# Altium schematic symbol library dungvh03-CERN_Logic.SchLib: 486 symbols (part 22 of 54)
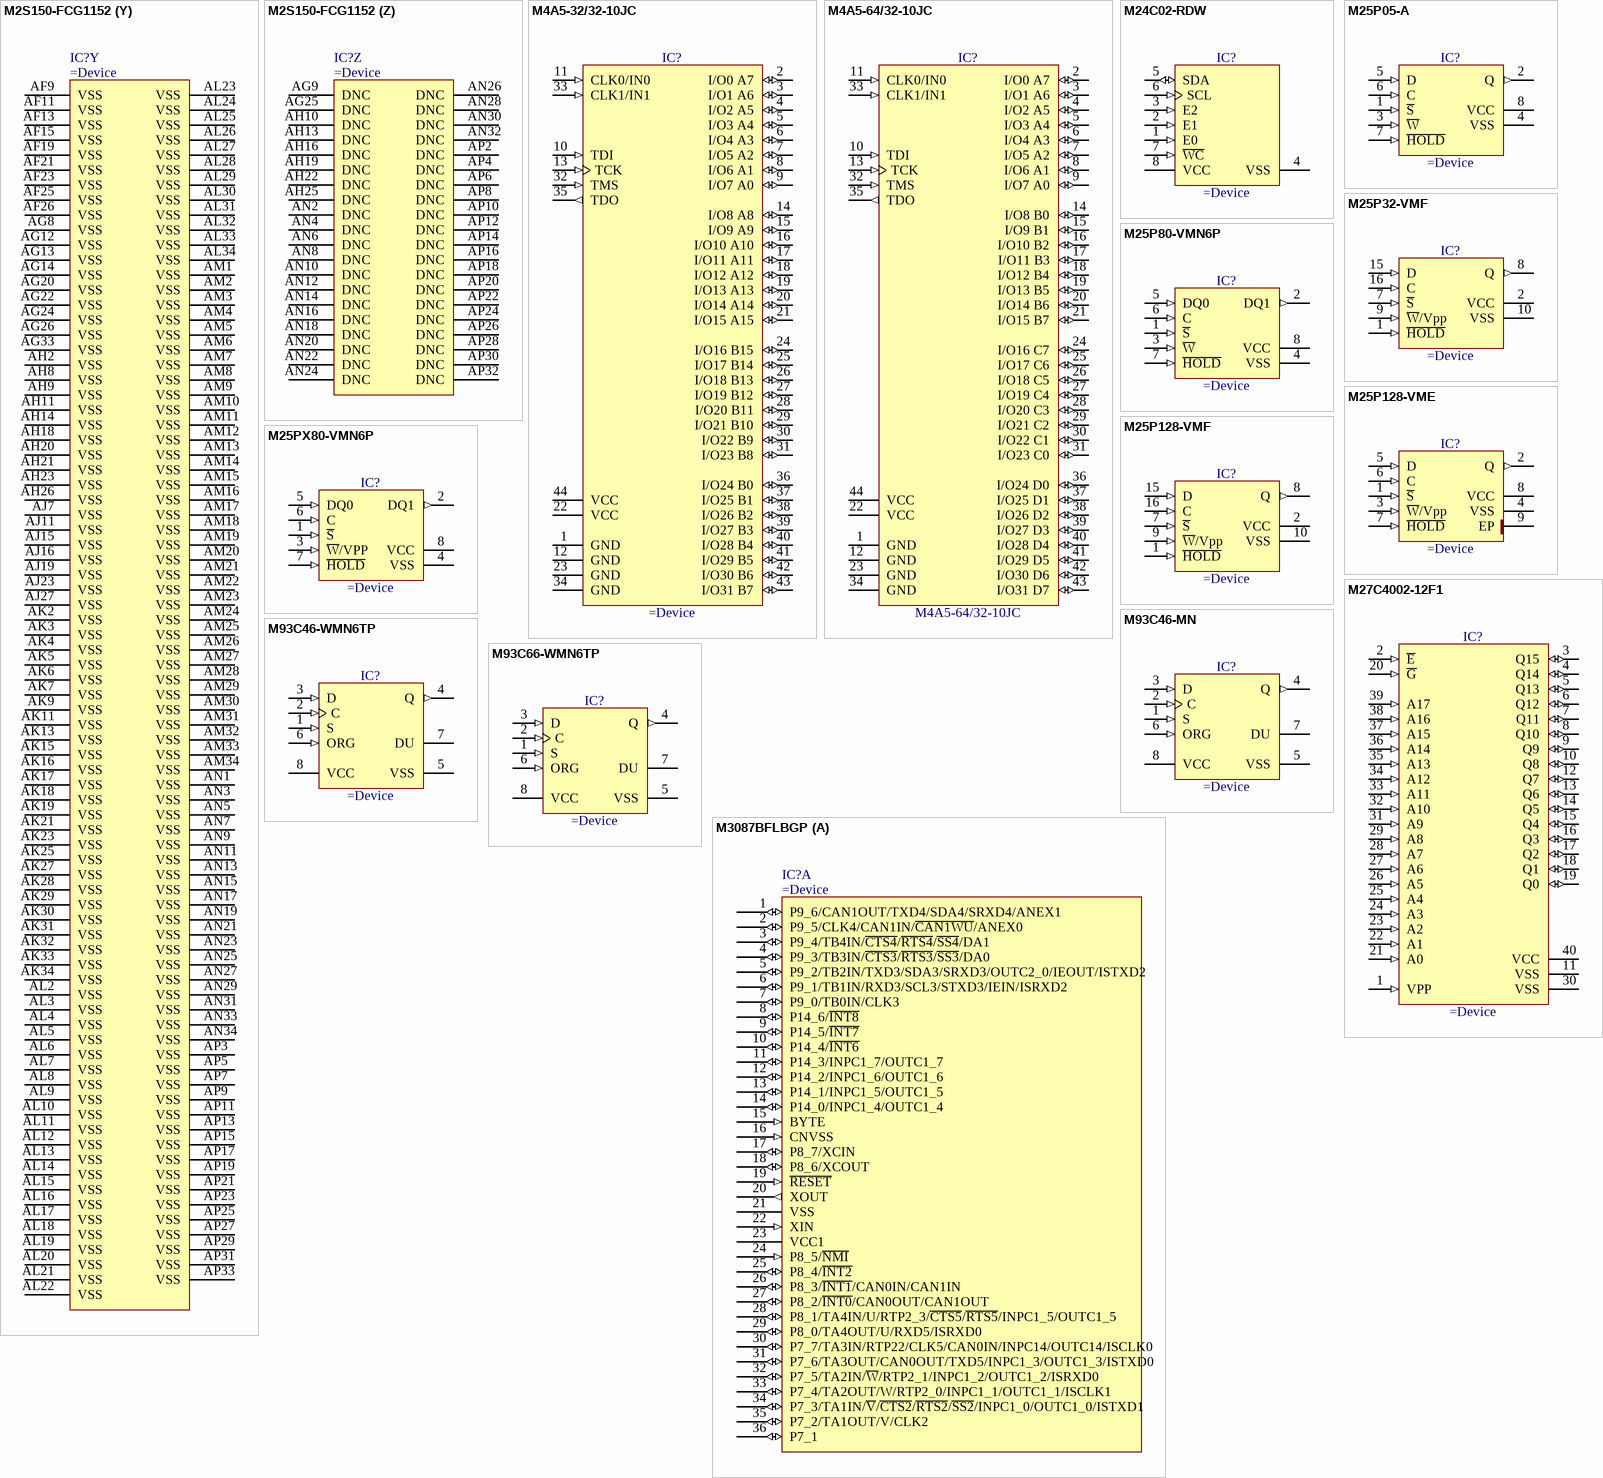
[diagram p282: symbols M2S150-FCG1152 to M3087BFLBGP]

## M2S150-FCG1152 (continued)
part V pins: AA15 VPP (power) "Power supply for charge pumps (for normal operation and programming). Must always power this pin.", AA17 VPP (power) "Power supply for charge pumps (for normal operation and programming). Must always power this pin.", AA19 VPP (power) "Power supply for charge pumps (for normal operation and programming). Must always power this pin.", AB14 VDD (power) "DC core supply voltage. Must always power this pin.", AB16 VDD (power) "DC core supply voltage. Must always power this pin.", AB18 VDD (power) "DC core supply voltage. Must always power this pin.", AB20 VDD (power) "DC core supply voltage. Must always power this pin.", AC13 VDD (power) "DC core supply voltage. Must always power this pin.", AC15 VDD (power) "DC core supply voltage. Must always power this pin.", AC17 VDD (power) "DC core supply voltage. Must always power this pin.", AC19 VDD (power) "DC core supply voltage. Must always power this pin.", AC21 VDD (power) "DC core supply voltage. Must always power this pin.", AD12 VDD (power) "DC core supply voltage. Must always power this pin.", AD14 VDD (power) "DC core supply voltage. Must always power this pin.", AD16 VDD (power) "DC core supply voltage. Must always power this pin.", AD18 VDD (power) "DC core supply voltage. Must always power this pin.", AD20 VDD (power) "DC core supply voltage. Must always power this pin.", AD22 VDD (power) "DC core supply voltage. Must always power this pin.", AE11 VDD (power) "DC core supply voltage. Must always power this pin.", AE13 VDD (power) "DC core supply voltage. Must always power this pin.", AE15 VDD (power) "DC core supply voltage. Must always power this pin.", AE19 VDD (power) "DC core supply voltage. Must always power this pin.", AE21 VDD (power) "DC core supply voltage. Must always power this pin.", AE23 VDD (power) "DC core supply voltage. Must always power this pin.", AF10 VPP (power) "Power supply for charge pumps (for normal operation and programming). Must always power this pin.", AF12 VDD (power) "DC core supply voltage. Must always power this pin.", AF14 VDD (power) "DC core supply voltage. Must always power this pin.", AF20 VDD (power) "DC core supply voltage. Must always power this pin.", AF22 VDD (power) "DC core supply voltage. Must always power this pin.", AF24 VDD (power) "DC core supply voltage. Must always power this pin.", AG10 VDD (power) "DC core supply voltage. Must always power this pin.", AG11 VDD (power) "DC core supply voltage. Must always power this pin.", AG15 VDD (power) "DC core supply voltage. Must always power this pin.", AG19 VDD (power) "DC core supply voltage. Must always power this pin.", AG21 VDD (power) "DC core supply voltage. Must always power this pin.", AG23 VDD (power) "DC core supply voltage. Must always power this pin.", AH12 VPP (power) "Power supply for charge pumps (for normal operation and programming). Must always power this pin.", AH15 VDD (power) "DC core supply voltage. Must always power this pin.", AH24 VPP (power) "Power supply for charge pumps (for normal operation and programming). Must always power this pin.", AJ18 VPP (power) "Power supply for charge pumps (for normal operation and programming). Must always power this pin.", N14 VREF2 (power), N16 VREF2 (power), N17 VREF2 (power), N18 VREF1 (power), N20 VREF1 (power), N22 VREF1 (power), P14 VDD (power) "DC core supply voltage. Must always power this pin.", P16 VDD (power) "DC core supply voltage. Must always power this pin.", P18 VDD (power) "DC core supply voltage. Must always power this pin.", P20 VDD (power) "DC core supply voltage. Must always power this pin.", R15 VDD (power) "DC core supply voltage. Must always power this pin.", R17 VDD (power) "DC core supply voltage. Must always power this pin.", R19 VDD (power) "DC core supply voltage. Must always power this pin.", R21 VDD (power) "DC core supply voltage. Must always power this pin.", T14 VPP (power) "Power supply for charge pumps (for normal operation and programming). Must always power this pin.", T16 VDD (power) "DC core supply voltage. Must always power this pin.", T18 VDD (power) "DC core supply voltage. Must always power this pin.", T20 VDD (power) "DC core supply voltage. Must always power this pin.", U15 VDD (power) "DC core supply voltage. Must always power this pin.", U17 VDD (power) "DC core supply voltage. Must always power this pin.", U19 VDD (power) "DC core supply voltage. Must always power this pin.", U21 VDD (power) "DC core supply voltage. Must always power this pin.", V14 VPP (power) "Power supply for charge pumps (for normal operation and programming). Must always power this pin.", V16 VDD (power) "DC core supply voltage. Must always power this pin.", V18 VDD (power) "DC core supply voltage. Must always power this pin.", V20 VDD (power) "DC core supply voltage. Must always power this pin.", W15 VDD (power) "DC core supply voltage. Must always power this pin.", W17 VDD (power) "DC core supply voltage. Must always power this pin.", W19 VDD (power) "DC core supply voltage. Must always power this pin.", W21 VDD (power) "DC core supply voltage. Must always power this pin.", Y14 VDD (power) "DC core supply voltage. Must always power this pin.", Y16 VDD (power) "DC core supply voltage. Must always power this pin.", Y18 VDD (power) "DC core supply voltage. Must always power this pin.", Y20 VDD (power) "DC core supply voltage. Must always power this pin."
part W pins: AA6 VDDI6 (power) "VDDI port 6, bank 6 power", AA13 VDDI6 (power) "VDDI port 6, bank 6 power", AA26 VDDI16 (power), AB9 VDDI6 (power) "VDDI port 6, bank 6 power", AB22 VDDI15 (power), AB33 VDDI16 (power), AC2 VDDI6 (power) "VDDI port 6, bank 6 power", AC30 VDDI16 (power), AD5 VDDI6 (power) "VDDI port 6, bank 6 power", AD6 VDDI8 (power) "VDDI port 8, bank 8 power", AD27 VDDI15 (power), AE34 VDDI15 (power), AF1 VDDI7 (power) "VDDI port 7, bank 7 power", AF31 VDDI15 (power), AG17 VDDI11 (power), AH4 VDDI8 (power) "VDDI port 8, bank 8 power", AH7 VDDI8 (power) "VDDI port 8, bank 8 power", AH27 VDDI14 (power), AJ9 VDDI9 (power) "VDDI port 9, bank 9 power", AJ13 VDDI10 (power), AJ21 VDDI12 (power), AJ25 VDDI13 (power), AJ31 VDDI14 (power), B7 VDDI2 (power) "VDDI port 2, bank 2 power", B9 VDDI2 (power) "VDDI port 2, bank 2 power", B11 VDDI2 (power) "VDDI port 2, bank 2 power", B13 VDDI2 (power) "VDDI port 2, bank 2 power", B15 VDDI2 (power) "VDDI port 2, bank 2 power", B17 VDDI2 (power) "VDDI port 2, bank 2 power", B20 VDDI1 (power) "VDDI port 1, bank 1 power", B22 VDDI1 (power) "VDDI port 1, bank 1 power", B24 VDDI1 (power) "VDDI port 1, bank 1 power", B26 VDDI1 (power) "VDDI port 1, bank 1 power", B28 VDDI1 (power) "VDDI port 1, bank 1 power", B30 VDDI1 (power) "VDDI port 1, bank 1 power", B32 VDDI1 (power) "VDDI port 1, bank 1 power", C3 VDDI2 (power) "VDDI port 2, bank 2 power", C18 VDDI1 (power) "VDDI port 1, bank 1 power", E8 VDDI2 (power) "VDDI port 2, bank 2 power", E10 VDDI2 (power) "VDDI port 2, bank 2 power", E12 VDDI2 (power) "VDDI port 2, bank 2 power", E14 VDDI2 (power) "VDDI port 2, bank 2 power", E16 VDDI2 (power) "VDDI port 2, bank 2 power", E21 VDDI1 (power) "VDDI port 1, bank 1 power", E23 VDDI1 (power) "VDDI port 1, bank 1 power", E25 VDDI1 (power) "VDDI port 1, bank 1 power", E27 VDDI1 (power) "VDDI port 1, bank 1 power", E29 VDDI1 (power) "VDDI port 1, bank 1 power", E34 VDDI18 (power), F1 VDDI3 (power) "VDDI port 3, bank 3 power", G4 VDDI3 (power) "VDDI port 3, bank 3 power", G6 VDDI2 (power) "VDDI port 2, bank 2 power", G32 VDDI0 (power) "VDDI port 0, bank 0 power", H9 VDDI2 (power) "VDDI port 2, bank 2 power", H11 VDDI2 (power) "VDDI port 2, bank 2 power", H13 VDDI2 (power) "VDDI port 2, bank 2 power", H15 VDDI2 (power) "VDDI port 2, bank 2 power", H17 VDDI2 (power) "VDDI port 2, bank 2 power", H22 VDDI1 (power) "VDDI port 1, bank 1 power", H24 VDDI1 (power) "VDDI port 1, bank 1 power", H26 VDDI1 (power) "VDDI port 1, bank 1 power", H28 VDDI1 (power) "VDDI port 1, bank 1 power", J32 VDDI18 (power), K3 VDDI4 (power) "VDDI port 4, bank 4 power", K14 VDDI2 (power) "VDDI port 2, bank 2 power", K22 VDDI1 (power) "VDDI port 1, bank 1 power", K26 VDDI0 (power) "VDDI port 0, bank 0 power", K29 VDDI18 (power), L6 VDDI3 (power) "VDDI port 3, bank 3 power", L15 VDDI2 (power) "VDDI port 2, bank 2 power", L17 VDDI2 (power) "VDDI port 2, bank 2 power", L19 VDDI1 (power) "VDDI port 1, bank 1 power", L21 VDDI1 (power) "VDDI port 1, bank 1 power", M9 VDDI3 (power) "VDDI port 3, bank 3 power", M14 VDDI2 (power) "VDDI port 2, bank 2 power", M16 VDDI2 (power) "VDDI port 2, bank 2 power", M18 VDDI1 (power) "VDDI port 1, bank 1 power", M20 VDDI1 (power) "VDDI port 1, bank 1 power", M33 VDDI17 (power), N2 VDDI4 (power) "VDDI port 4, bank 4 power", N13 VDDI3 (power) "VDDI port 3, bank 3 power", N15 VDDI2 (power) "VDDI port 2, bank 2 power", N19 VDDI1 (power) "VDDI port 1, bank 1 power", N21 VDDI1 (power) "VDDI port 1, bank 1 power", N30 VDDI18 (power), P5 VDDI4 (power) "VDDI port 4, bank 4 power", P22 VDDI18 (power), P27 VDDI18 (power), R8 VDDI4 (power) "VDDI port 4, bank 4 power", R13 VDDI4 (power) "VDDI port 4, bank 4 power", R34 VDDI17 (power), T1 VDDI5 (power) "VDDI port 5, bank 5 power", T22 VDDI17 (power), T31 VDDI17 (power), U4 VDDI5 (power) "VDDI port 5, bank 5 power", U13 VDDI4 (power) "VDDI port 4, bank 4 power", U28 VDDI17 (power), V7 VDDI5 (power) "VDDI port 5, bank 5 power", V22 VDDI16 (power), V25 VDDI16 (power), W10 VDDI5 (power) "VDDI port 5, bank 5 power", W13 VDDI5 (power) "VDDI port 5, bank 5 power", W32 VDDI16 (power), Y3 VDDI5 (power) "VDDI port 5, bank 5 power", Y29 VDDI16 (power)
part X pins: A4 VSS (power) "Ground pad for core and I/Os. Must always connect to ground.", A7 VSS (power) "Ground pad for core and I/Os. Must always connect to ground.", A9 VSS (power) "Ground pad for core and I/Os. Must always connect to ground.", A11 VSS (power) "Ground pad for core and I/Os. Must always connect to ground.", A13 VSS (power) "Ground pad for core and I/Os. Must always connect to ground.", A15 VSS (power) "Ground pad for core and I/Os. Must always connect to ground.", A17 VSS (power) "Ground pad for core and I/Os. Must always connect to ground.", A20 VSS (power) "Ground pad for core and I/Os. Must always connect to ground.", A22 VSS (power) "Ground pad for core and I/Os. Must always connect to ground.", A24 VSS (power) "Ground pad for core and I/Os. Must always connect to ground.", A26 VSS (power) "Ground pad for core and I/Os. Must always connect to ground.", A28 VSS (power) "Ground pad for core and I/Os. Must always connect to ground.", A30 VSS (power) "Ground pad for core and I/Os. Must always connect to ground.", A32 VSS (power) "Ground pad for core and I/Os. Must always connect to ground.", AA1 VSS (power) "Ground pad for core and I/Os. Must always connect to ground.", AA14 VSS (power) "Ground pad for core and I/Os. Must always connect to ground.", AA16 VSS (power) "Ground pad for core and I/Os. Must always connect to ground.", AA18 VSS (power) "Ground pad for core and I/Os. Must always connect to ground.", AA20 VSS (power) "Ground pad for core and I/Os. Must always connect to ground.", AA24 VSS (power) "Ground pad for core and I/Os. Must always connect to ground.", AA31 VSS (power) "Ground pad for core and I/Os. Must always connect to ground.", AB4 VSS (power) "Ground pad for core and I/Os. Must always connect to ground.", AB15 VSS (power) "Ground pad for core and I/Os. Must always connect to ground.", AB17 VSS (power) "Ground pad for core and I/Os. Must always connect to ground.", AB19 VSS (power) "Ground pad for core and I/Os. Must always connect to ground.", AB21 VSS (power) "Ground pad for core and I/Os. Must always connect to ground.", AB28 VSS (power) "Ground pad for core and I/Os. Must always connect to ground.", AC7 VSS (power) "Ground pad for core and I/Os. Must always connect to ground.", AC14 VSS (power) "Ground pad for core and I/Os. Must always connect to ground.", AC16 VSS (power) "Ground pad for core and I/Os. Must always connect to ground.", AC18 VSS (power) "Ground pad for core and I/Os. Must always connect to ground.", AC20 VSS (power) "Ground pad for core and I/Os. Must always connect to ground.", AC22 VSS (power) "Ground pad for core and I/Os. Must always connect to ground.", AD10 VSS (power) "Ground pad for core and I/Os. Must always connect to ground.", AD11 VSS (power) "Ground pad for core and I/Os. Must always connect to ground.", AD13 VSS (power) "Ground pad for core and I/Os. Must always connect to ground.", AD15 VSS (power) "Ground pad for core and I/Os. Must always connect to ground.", AD17 VSS (power) "Ground pad for core and I/Os. Must always connect to ground.", AD19 VSS (power) "Ground pad for core and I/Os. Must always connect to ground.", AD21 VSS (power) "Ground pad for core and I/Os. Must always connect to ground.", AD23 VSS (power) "Ground pad for core and I/Os. Must always connect to ground.", AD32 VSS (power) "Ground pad for core and I/Os. Must always connect to ground.", AE3 VSS (power) "Ground pad for core and I/Os. Must always connect to ground.", AE8 VSS (power) "Ground pad for core and I/Os. Must always connect to ground.", AE9 VSS (power) "Ground pad for core and I/Os. Must always connect to ground.", AE10 VSS (power) "Ground pad for core and I/Os. Must always connect to ground.", AE12 VSS (power) "Ground pad for core and I/Os. Must always connect to ground.", AE14 VSS (power) "Ground pad for core and I/Os. Must always connect to ground.", AE16 VSS (power) "Ground pad for core and I/Os. Must always connect to ground.", AE18 VSS (power) "Ground pad for core and I/Os. Must always connect to ground.", AE20 VSS (power) "Ground pad for core and I/Os. Must always connect to ground.", AE22 VSS (power) "Ground pad for core and I/Os. Must always connect to ground.", AE24 VSS (power) "Ground pad for core and I/Os. Must always connect to ground.", AE25 VSS (power) "Ground pad for core and I/Os. Must always connect to ground.", AE29 VSS (power) "Ground pad for core and I/Os. Must always connect to ground.", AF4 VSS (power) "Ground pad for core and I/Os. Must always connect to ground.", AF6 VSS (power) "Ground pad for core and I/Os. Must always connect to ground.", AF8 VSS (power) "Ground pad for core and I/Os. Must always connect to ground.", B1 VSS (power) "Ground pad for core and I/Os. Must always connect to ground.", B34 VSS (power) "Ground pad for core and I/Os. Must always connect to ground.", D6 VSS (power) "Ground pad for core and I/Os. Must always connect to ground.", D8 VSS (power) "Ground pad for core and I/Os. Must always connect to ground.", D10 VSS (power) "Ground pad for core and I/Os. Must always connect to ground.", D12 VSS (power) "Ground pad for core and I/Os. Must always connect to ground.", D14 VSS (power) "Ground pad for core and I/Os. Must always connect to ground.", D16 VSS (power) "Ground pad for core and I/Os. Must always connect to ground.", D21 VSS (power) "Ground pad for core and I/Os. Must always connect to ground.", D23 VSS (power) "Ground pad for core and I/Os. Must always connect to ground.", D25 VSS (power) "Ground pad for core and I/Os. Must always connect to ground.", D27 VSS (power) "Ground pad for core and I/Os. Must always connect to ground.", D29 VSS (power) "Ground pad for core and I/Os. Must always connect to ground.", D31 VSS (power) "Ground pad for core and I/Os. Must always connect to ground.", E4 VSS (power) "Ground pad for core and I/Os. Must always connect to ground.", E19 VSS (power) "Ground pad for core and I/Os. Must always connect to ground.", G9 VSS (power) "Ground pad for core and I/Os. Must always connect to ground.", G11 VSS (power) "Ground pad for core and I/Os. Must always connect to ground.", G13 VSS (power) "Ground pad for core and I/Os. Must always connect to ground.", G15 VSS (power) "Ground pad for core and I/Os. Must always connect to ground.", G17 VSS (power) "Ground pad for core and I/Os. Must always connect to ground.", G22 VSS (power) "Ground pad for core and I/Os. Must always connect to ground.", G24 VSS (power) "Ground pad for core and I/Os. Must always connect to ground.", G26 VSS (power) "Ground pad for core and I/Os. Must always connect to ground.", G28 VSS (power) "Ground pad for core and I/Os. Must always connect to ground.", G33 VSS (power) "Ground pad for core and I/Os. Must always connect to ground.", H2 VSS (power) "Ground pad for core and I/Os. Must always connect to ground.", H19 VSS (power) "Ground pad for core and I/Os. Must always connect to ground.", H30 VSS (power) "Ground pad for core and I/Os. Must always connect to ground.", J5 VSS (power) "Ground pad for core and I/Os. Must always connect to ground.", K8 VSS (power) "Ground pad for core and I/Os. Must always connect to ground.", K13 VSS (power) "Ground pad for core and I/Os. Must always connect to ground.", K16 VSS (power) "Ground pad for core and I/Os. Must always connect to ground.", K18 VSS (power) "Ground pad for core and I/Os. Must always connect to ground.", K21 VSS (power) "Ground pad for core and I/Os. Must always connect to ground.", K25 VSS (power) "Ground pad for core and I/Os. Must always connect to ground.", K34 VSS (power) "Ground pad for core and I/Os. Must always connect to ground.", L1 VSS (power) "Ground pad for core and I/Os. Must always connect to ground.", L11 VSS (power) "Ground pad for core and I/Os. Must always connect to ground.", L14 VSS (power) "Ground pad for core and I/Os. Must always connect to ground.", L16 VSS (power) "Ground pad for core and I/Os. Must always connect to ground.", L18 VSS (power) "Ground pad for core and I/Os. Must always connect to ground.", L20 VSS (power) "Ground pad for core and I/Os. Must always connect to ground.", L22 VSS (power) "Ground pad for core and I/Os. Must always connect to ground.", L31 VSS (power) "Ground pad for core and I/Os. Must always connect to ground.", M4 VSS (power) "Ground pad for core and I/Os. Must always connect to ground.", M15 VSS (power) "Ground pad for core and I/Os. Must always connect to ground.", M17 VSS (power) "Ground pad for core and I/Os. Must always connect to ground.", M19 VSS (power) "Ground pad for core and I/Os. Must always connect to ground.", M21 VSS (power) "Ground pad for core and I/Os. Must always connect to ground.", M28 VSS (power) "Ground pad for core and I/Os. Must always connect to ground.", N7 VSS (power) "Ground pad for core and I/Os. Must always connect to ground.", N25 VSS (power) "Ground pad for core and I/Os. Must always connect to ground.", P10 VSS (power) "Ground pad for core and I/Os. Must always connect to ground.", P13 VSS (power) "Ground pad for core and I/Os. Must always connect to ground.", P15 VSS (power) "Ground pad for core and I/Os. Must always connect to ground.", P17 VSS (power) "Ground pad for core and I/Os. Must always connect to ground.", P19 VSS (power) "Ground pad for core and I/Os. Must always connect to ground.", P21 VSS (power) "Ground pad for core and I/Os. Must always connect to ground.", P32 VSS (power) "Ground pad for core and I/Os. Must always connect to ground.", R3 VSS (power) "Ground pad for core and I/Os. Must always connect to ground.", R14 VSS (power) "Ground pad for core and I/Os. Must always connect to ground.", R16 VSS (power) "Ground pad for core and I/Os. Must always connect to ground.", R18 VSS (power) "Ground pad for core and I/Os. Must always connect to ground.", R20 VSS (power) "Ground pad for core and I/Os. Must always connect to ground.", R22 VSS (power) "Ground pad for core and I/Os. Must always connect to ground.", R29 VSS (power) "Ground pad for core and I/Os. Must always connect to ground.", T6 VSS (power) "Ground pad for core and I/Os. Must always connect to ground.", T13 VSS (power) "Ground pad for core and I/Os. Must always connect to ground.", T15 VSS (power) "Ground pad for core and I/Os. Must always connect to ground.", T17 VSS (power) "Ground pad for core and I/Os. Must always connect to ground.", T19 VSS (power) "Ground pad for core and I/Os. Must always connect to ground.", T21 VSS (power) "Ground pad for core and I/Os. Must always connect to ground.", T26 VSS (power) "Ground pad for core and I/Os. Must always connect to ground.", U9 VSS (power) "Ground pad for core and I/Os. Must always connect to ground.", U14 VSS (power) "Ground pad for core and I/Os. Must always connect to ground.", U16 VSS (power) "Ground pad for core and I/Os. Must always connect to ground.", U18 VSS (power) "Ground pad for core and I/Os. Must always connect to ground.", U20 VSS (power) "Ground pad for core and I/Os. Must always connect to ground.", U22 VSS (power) "Ground pad for core and I/Os. Must always connect to ground.", U33 VSS (power) "Ground pad for core and I/Os. Must always connect to ground.", V2 VSS (power) "Ground pad for core and I/Os. Must always connect to ground.", V13 VSS (power) "Ground pad for core and I/Os. Must always connect to ground.", V15 VSS (power) "Ground pad for core and I/Os. Must always connect to ground.", V17 VSS (power) "Ground pad for core and I/Os. Must always connect to ground.", V19 VSS (power) "Ground pad for core and I/Os. Must always connect to ground.", V21 VSS (power) "Ground pad for core and I/Os. Must always connect to ground.", V30 VSS (power) "Ground pad for core and I/Os. Must always connect to ground.", W5 VSS (power) "Ground pad for core and I/Os. Must always connect to ground.", W14 VSS (power) "Ground pad for core and I/Os. Must always connect to ground.", W16 VSS (power) "Ground pad for core and I/Os. Must always connect to ground.", W18 VSS (power) "Ground pad for core and I/Os. Must always connect to ground.", W20 VSS (power) "Ground pad for core and I/Os. Must always connect to ground.", W22 VSS (power) "Ground pad for core and I/Os. Must always connect to ground.", W27 VSS (power) "Ground pad for core and I/Os. Must always connect to ground.", Y8 VSS (power) "Ground pad for core and I/Os. Must always connect to ground.", Y13 VSS (power) "Ground pad for core and I/Os. Must always connect to ground.", Y15 VSS (power) "Ground pad for core and I/Os. Must always connect to ground.", Y17 VSS (power) "Ground pad for core and I/Os. Must always connect to ground.", Y19 VSS (power) "Ground pad for core and I/Os. Must always connect to ground.", Y21 VSS (power) "Ground pad for core and I/Os. Must always connect to ground.", Y34 VSS (power) "Ground pad for core and I/Os. Must always connect to ground."
part Y pins: AF9 VSS (power) "Ground pad for core and I/Os. Must always connect to ground.", AF11 VSS (power) "Ground pad for core and I/Os. Must always connect to ground.", AF13 VSS (power) "Ground pad for core and I/Os. Must always connect to ground.", AF15 VSS (power) "Ground pad for core and I/Os. Must always connect to ground.", AF19 VSS (power) "Ground pad for core and I/Os. Must always connect to ground.", AF21 VSS (power) "Ground pad for core and I/Os. Must always connect to ground.", AF23 VSS (power) "Ground pad for core and I/Os. Must always connect to ground.", AF25 VSS (power) "Ground pad for core and I/Os. Must always connect to ground.", AF26 VSS (power) "Ground pad for core and I/Os. Must always connect to ground.", AG8 VSS (power) "Ground pad for core and I/Os. Must always connect to ground.", AG12 VSS (power) "Ground pad for core and I/Os. Must always connect to ground.", AG13 VSS (power) "Ground pad for core and I/Os. Must always connect to ground.", AG14 VSS (power) "Ground pad for core and I/Os. Must always connect to ground.", AG20 VSS (power) "Ground pad for core and I/Os. Must always connect to ground.", AG22 VSS (power) "Ground pad for core and I/Os. Must always connect to ground.", AG24 VSS (power) "Ground pad for core and I/Os. Must always connect to ground.", AG26 VSS (power) "Ground pad for core and I/Os. Must always connect to ground.", AG33 VSS (power) "Ground pad for core and I/Os. Must always connect to ground.", AH2 VSS (power) "Ground pad for core and I/Os. Must always connect to ground.", AH8 VSS (power) "Ground pad for core and I/Os. Must always connect to ground.", AH9 VSS (power) "Ground pad for core and I/Os. Must always connect to ground.", AH11 VSS (power) "Ground pad for core and I/Os. Must always connect to ground.", AH14 VSS (power) "Ground pad for core and I/Os. Must always connect to ground.", AH18 VSS (power) "Ground pad for core and I/Os. Must always connect to ground.", AH20 VSS (power) "Ground pad for core and I/Os. Must always connect to ground.", AH21 VSS (power) "Ground pad for core and I/Os. Must always connect to ground.", AH23 VSS (power) "Ground pad for core and I/Os. Must always connect to ground.", AH26 VSS (power) "Ground pad for core and I/Os. Must always connect to ground.", AJ7 VSS (power) "Ground pad for core and I/Os. Must always connect to ground.", AJ11 VSS (power) "Ground pad for core and I/Os. Must always connect to ground.", AJ15 VSS (power) "Ground pad for core and I/Os. Must always connect to ground.", AJ16 VSS (power) "Ground pad for core and I/Os. Must always connect to ground.", AJ19 VSS (power) "Ground pad for core and I/Os. Must always connect to ground.", AJ23 VSS (power) "Ground pad for core and I/Os. Must always connect to ground.", AJ27 VSS (power) "Ground pad for core and I/Os. Must always connect to ground.", AK2 VSS (power) "Ground pad for core and I/Os. Must always connect to ground.", AK3 VSS (power) "Ground pad for core and I/Os. Must always connect to ground.", AK4 VSS (power) "Ground pad for core and I/Os. Must always connect to ground.", AK5 VSS (power) "Ground pad for core and I/Os. Must always connect to ground.", AK6 VSS (power) "Ground pad for core and I/Os. Must always connect to ground.", AK7 VSS (power) "Ground pad for core and I/Os. Must always connect to ground.", AK9 VSS (power) "Ground pad for core and I/Os. Must always connect to ground.", AK11 VSS (power) "Ground pad for core and I/Os. Must always connect to ground.", AK13 VSS (power) "Ground pad for core and I/Os. Must always connect to ground.", AK15 VSS (power) "Ground pad for core and I/Os. Must always connect to ground.", AK16 VSS (power) "Ground pad for core and I/Os. Must always connect to ground.", AK17 VSS (power) "Ground pad for core and I/Os. Must always connect to ground.", AK18 VSS (power) "Ground pad for core and I/Os. Must always connect to ground.", AK19 VSS (power) "Ground pad for core and I/Os. Must always connect to ground.", AK21 VSS (power) "Ground pad for core and I/Os. Must always connect to ground.", AK23 VSS (power) "Ground pad for core and I/Os. Must always connect to ground.", AK25 VSS (power) "Ground pad for core and I/Os. Must always connect to ground.", AK27 VSS (power) "Ground pad for core and I/Os. Must always connect to ground.", AK28 VSS (power) "Ground pad for core and I/Os. Must always connect to ground.", AK29 VSS (power) "Ground pad for core and I/Os. Must always connect to ground.", AK30 VSS (power) "Ground pad for core and I/Os. Must always connect to ground.", AK31 VSS (power) "Ground pad for core and I/Os. Must always connect to ground.", AK32 VSS (power) "Ground pad for core and I/Os. Must always connect to ground.", AK33 VSS (power) "Ground pad for core and I/Os. Must always connect to ground.", AK34 VSS (power) "Ground pad for core and I/Os. Must always connect to ground.", AL2 VSS (power) "Ground pad for core and I/Os. Must always connect to ground.", AL3 VSS (power) "Ground pad for core and I/Os. Must always connect to ground.", AL4 VSS (power) "Ground pad for core and I/Os. Must always connect to ground.", AL5 VSS (power) "Ground pad for core and I/Os. Must always connect to ground.", AL6 VSS (power) "Ground pad for core and I/Os. Must always connect to ground.", AL7 VSS (power) "Ground pad for core and I/Os. Must always connect to ground.", AL8 VSS (power) "Ground pad for core and I/Os. Must always connect to ground.", AL9 VSS (power) "Ground pad for core and I/Os. Must always connect to ground.", AL10 VSS (power) "Ground pad for core and I/Os. Must always connect to ground.", AL11 VSS (power) "Ground pad for core and I/Os. Must always connect to ground.", AL12 VSS (power) "Ground pad for core and I/Os. Must always connect to ground.", AL13 VSS (power) "Ground pad for core and I/Os. Must always connect to ground.", AL14 VSS (power) "Ground pad for core and I/Os. Must always connect to ground.", AL15 VSS (power) "Ground pad for core and I/Os. Must always connect to ground.", AL16 VSS (power) "Ground pad for core and I/Os. Must always connect to ground.", AL17 VSS (power) "Ground pad for core and I/Os. Must always connect to ground.", AL18 VSS (power) "Ground pad for core and I/Os. Must always connect to ground.", AL19 VSS (power) "Ground pad for core and I/Os. Must always connect to ground.", AL20 VSS (power) "Ground pad for core and I/Os. Must always connect to ground.", AL21 VSS (power) "Ground pad for core and I/Os. Must always connect to ground.", AL22 VSS (power) "Ground pad for core and I/Os. Must always connect to ground.", AL23 VSS (power) "Ground pad for core and I/Os. Must always connect to ground.", AL24 VSS (power) "Ground pad for core and I/Os. Must always connect to ground.", AL25 VSS (power) "Ground pad for core and I/Os. Must always connect to ground.", AL26 VSS (power) "Ground pad for core and I/Os. Must always connect to ground.", AL27 VSS (power) "Ground pad for core and I/Os. Must always connect to ground.", AL28 VSS (power) "Ground pad for core and I/Os. Must always connect to ground.", AL29 VSS (power) "Ground pad for core and I/Os. Must always connect to ground.", AL30 VSS (power) "Ground pad for core and I/Os. Must always connect to ground.", AL31 VSS (power) "Ground pad for core and I/Os. Must always connect to ground.", AL32 VSS (power) "Ground pad for core and I/Os. Must always connect to ground.", AL33 VSS (power) "Ground pad for core and I/Os. Must always connect to ground.", AL34 VSS (power) "Ground pad for core and I/Os. Must always connect to ground.", AM1 VSS (power) "Ground pad for core and I/Os. Must always connect to ground.", AM2 VSS (power) "Ground pad for core and I/Os. Must always connect to ground.", AM3 VSS (power) "Ground pad for core and I/Os. Must always connect to ground.", AM4 VSS (power) "Ground pad for core and I/Os. Must always connect to ground.", AM5 VSS (power) "Ground pad for core and I/Os. Must always connect to ground.", AM6 VSS (power) "Ground pad for core and I/Os. Must always connect to ground.", AM7 VSS (power) "Ground pad for core and I/Os. Must always connect to ground.", AM8 VSS (power) "Ground pad for core and I/Os. Must always connect to ground.", AM9 VSS (power) "Ground pad for core and I/Os. Must always connect to ground.", AM10 VSS (power) "Ground pad for core and I/Os. Must always connect to ground.", AM11 VSS (power) "Ground pad for core and I/Os. Must always connect to ground.", AM12 VSS (power) "Ground pad for core and I/Os. Must always connect to ground.", AM13 VSS (power) "Ground pad for core and I/Os. Must always connect to ground.", AM14 VSS (power) "Ground pad for core and I/Os. Must always connect to ground.", AM15 VSS (power) "Ground pad for core and I/Os. Must always connect to ground.", AM16 VSS (power) "Ground pad for core and I/Os. Must always connect to ground.", AM17 VSS (power) "Ground pad for core and I/Os. Must always connect to ground.", AM18 VSS (power) "Ground pad for core and I/Os. Must always connect to ground.", AM19 VSS (power) "Ground pad for core and I/Os. Must always connect to ground.", AM20 VSS (power) "Ground pad for core and I/Os. Must always connect to ground.", AM21 VSS (power) "Ground pad for core and I/Os. Must always connect to ground.", AM22 VSS (power) "Ground pad for core and I/Os. Must always connect to ground.", AM23 VSS (power) "Ground pad for core and I/Os. Must always connect to ground.", AM24 VSS (power) "Ground pad for core and I/Os. Must always connect to ground.", AM25 VSS (power) "Ground pad for core and I/Os. Must always connect to ground.", AM26 VSS (power) "Ground pad for core and I/Os. Must always connect to ground.", AM27 VSS (power) "Ground pad for core and I/Os. Must always connect to ground.", AM28 VSS (power) "Ground pad for core and I/Os. Must always connect to ground.", AM29 VSS (power) "Ground pad for core and I/Os. Must always connect to ground.", AM30 VSS (power) "Ground pad for core and I/Os. Must always connect to ground.", AM31 VSS (power) "Ground pad for core and I/Os. Must always connect to ground.", AM32 VSS (power) "Ground pad for core and I/Os. Must always connect to ground.", AM33 VSS (power) "Ground pad for core and I/Os. Must always connect to ground.", AM34 VSS (power) "Ground pad for core and I/Os. Must always connect to ground.", AN1 VSS (power) "Ground pad for core and I/Os. Must always connect to ground.", AN3 VSS (power) "Ground pad for core and I/Os. Must always connect to ground.", AN5 VSS (power) "Ground pad for core and I/Os. Must always connect to ground.", AN7 VSS (power) "Ground pad for core and I/Os. Must always connect to ground.", AN9 VSS (power) "Ground pad for core and I/Os. Must always connect to ground.", AN11 VSS (power) "Ground pad for core and I/Os. Must always connect to ground.", AN13 VSS (power) "Ground pad for core and I/Os. Must always connect to ground.", AN15 VSS (power) "Ground pad for core and I/Os. Must always connect to ground.", AN17 VSS (power) "Ground pad for core and I/Os. Must always connect to ground.", AN19 VSS (power) "Ground pad for core and I/Os. Must always connect to ground.", AN21 VSS (power) "Ground pad for core and I/Os. Must always connect to ground.", AN23 VSS (power) "Ground pad for core and I/Os. Must always connect to ground.", AN25 VSS (power) "Ground pad for core and I/Os. Must always connect to ground.", AN27 VSS (power) "Ground pad for core and I/Os. Must always connect to ground.", AN29 VSS (power) "Ground pad for core and I/Os. Must always connect to ground.", AN31 VSS (power) "Ground pad for core and I/Os. Must always connect to ground.", AN33 VSS (power) "Ground pad for core and I/Os. Must always connect to ground.", AN34 VSS (power) "Ground pad for core and I/Os. Must always connect to ground.", AP3 VSS (power) "Ground pad for core and I/Os. Must always connect to ground.", AP5 VSS (power) "Ground pad for core and I/Os. Must always connect to ground.", AP7 VSS (power) "Ground pad for core and I/Os. Must always connect to ground.", AP9 VSS (power) "Ground pad for core and I/Os. Must always connect to ground.", AP11 VSS (power) "Ground pad for core and I/Os. Must always connect to ground.", AP13 VSS (power) "Ground pad for core and I/Os. Must always connect to ground.", AP15 VSS (power) "Ground pad for core and I/Os. Must always connect to ground.", AP17 VSS (power) "Ground pad for core and I/Os. Must always connect to ground.", AP19 VSS (power) "Ground pad for core and I/Os. Must always connect to ground.", AP21 VSS (power) "Ground pad for core and I/Os. Must always connect to ground.", AP23 VSS (power) "Ground pad for core and I/Os. Must always connect to ground.", AP25 VSS (power) "Ground pad for core and I/Os. Must always connect to ground.", AP27 VSS (power) "Ground pad for core and I/Os. Must always connect to ground.", AP29 VSS (power) "Ground pad for core and I/Os. Must always connect to ground.", AP31 VSS (power) "Ground pad for core and I/Os. Must always connect to ground.", AP33 VSS (power) "Ground pad for core and I/Os. Must always connect to ground."
part Z pins: AG9 DNC "Do not connect. This pin should not be connected to any signals on the PCB; leave this pin unconnected.", AG25 DNC "Do not connect. This pin should not be connected to any signals on the PCB; leave this pin unconnected.", AH10 DNC "Do not connect. This pin should not be connected to any signals on the PCB; leave this pin unconnected.", AH13 DNC "Do not connect. This pin should not be connected to any signals on the PCB; leave this pin unconnected.", AH16 DNC "Do not connect. This pin should not be connected to any signals on the PCB; leave this pin unconnected.", AH19 DNC "Do not connect. This pin should not be connected to any signals on the PCB; leave this pin unconnected.", AH22 DNC "Do not connect. This pin should not be connected to any signals on the PCB; leave this pin unconnected.", AH25 DNC "Do not connect. This pin should not be connected to any signals on the PCB; leave this pin unconnected.", AN2 DNC "Do not connect. This pin should not be connected to any signals on the PCB; leave this pin unconnected.", AN4 DNC "Do not connect. This pin should not be connected to any signals on the PCB; leave this pin unconnected.", AN6 DNC "Do not connect. This pin should not be connected to any signals on the PCB; leave this pin unconnected.", AN8 DNC "Do not connect. This pin should not be connected to any signals on the PCB; leave this pin unconnected.", AN10 DNC "Do not connect. This pin should not be connected to any signals on the PCB; leave this pin unconnected.", AN12 DNC "Do not connect. This pin should not be connected to any signals on the PCB; leave this pin unconnected.", AN14 DNC "Do not connect. This pin should not be connected to any signals on the PCB; leave this pin unconnected.", AN16 DNC "Do not connect. This pin should not be connected to any signals on the PCB; leave this pin unconnected.", AN18 DNC "Do not connect. This pin should not be connected to any signals on the PCB; leave this pin unconnected.", AN20 DNC "Do not connect. This pin should not be connected to any signals on the PCB; leave this pin unconnected.", AN22 DNC "Do not connect. This pin should not be connected to any signals on the PCB; leave this pin unconnected.", AN24 DNC "Do not connect. This pin should not be connected to any signals on the PCB; leave this pin unconnected.", AN26 DNC "Do not connect. This pin should not be connected to any signals on the PCB; leave this pin unconnected.", AN28 DNC "Do not connect. This pin should not be connected to any signals on the PCB; leave this pin unconnected.", AN30 DNC "Do not connect. This pin should not be connected to any signals on the PCB; leave this pin unconnected.", AN32 DNC "Do not connect. This pin should not be connected to any signals on the PCB; leave this pin unconnected.", AP2 DNC "Do not connect. This pin should not be connected to any signals on the PCB; leave this pin unconnected.", AP4 DNC "Do not connect. This pin should not be connected to any signals on the PCB; leave this pin unconnected.", AP6 DNC "Do not connect. This pin should not be connected to any signals on the PCB; leave this pin unconnected.", AP8 DNC "Do not connect. This pin should not be connected to any signals on the PCB; leave this pin unconnected.", AP10 DNC "Do not connect. This pin should not be connected to any signals on the PCB; leave this pin unconnected.", AP12 DNC "Do not connect. This pin should not be connected to any signals on the PCB; leave this pin unconnected.", AP14 DNC "Do not connect. This pin should not be connected to any signals on the PCB; leave this pin unconnected.", AP16 DNC "Do not connect. This pin should not be connected to any signals on the PCB; leave this pin unconnected.", AP18 DNC "Do not connect. This pin should not be connected to any signals on the PCB; leave this pin unconnected.", AP20 DNC "Do not connect. This pin should not be connected to any signals on the PCB; leave this pin unconnected.", AP22 DNC "Do not connect. This pin should not be connected to any signals on the PCB; leave this pin unconnected.", AP24 DNC "Do not connect. This pin should not be connected to any signals on the PCB; leave this pin unconnected.", AP26 DNC "Do not connect. This pin should not be connected to any signals on the PCB; leave this pin unconnected.", AP28 DNC "Do not connect. This pin should not be connected to any signals on the PCB; leave this pin unconnected.", AP30 DNC "Do not connect. This pin should not be connected to any signals on the PCB; leave this pin unconnected.", AP32 DNC "Do not connect. This pin should not be connected to any signals on the PCB; leave this pin unconnected."
part A text: BANK 0
part B text: BANK 1
part C text: BANK 2
part D text: BANK 3
part E text: BANK 4
part F text: BANK 5
part G text: BANK 6
part H text: BANK 8
part I text: BANK 9
part J text: BANK 10
part K text: BANK 11
part L text: BANK 12
part M text: BANK 13
part N text: BANK 14
part O text: BANK 15
part P text: BANK 16
part Q text: BANK 17
part R text: BANK 18

## M4A5-32/32-10JC
designator IC?
High-Performance EE CMOS In-System Programmable Logic
pins: 1 GND (power), 2 I/O0 A7 (io), 3 I/O1 A6 (io), 4 I/O2 A5 (io), 5 I/O3 A4 (io), 6 I/O4 A3 (io), 7 I/O5 A2 (io), 8 I/O6 A1 (io), 9 I/O7 A0 (io), 10 TDI (in), 11 CLK0/IN0 (in), 12 GND (power), 13 TCK (in), 14 I/O8 A8 (io), 15 I/O9 A9 (io), 16 I/O10 A10 (io), 17 I/O11 A11 (io), 18 I/O12 A12 (io), 19 I/O13 A13 (io), 20 I/O14 A14 (io), 21 I/O15 A15 (io), 22 VCC (power), 23 GND (power), 24 I/O16 B15 (io), 25 I/O17 B14 (io), 26 I/O18 B13 (io), 27 I/O19 B12 (io), 28 I/O20 B11 (io), 29 I/O21 B10 (io), 30 I/O22 B9 (io), 31 I/O23 B8 (io), 32 TMS (in), 33 CLK1/IN1 (in), 34 GND (power), 35 TDO (out), 36 I/O24 B0 (io), 37 I/O25 B1 (io), 38 I/O26 B2 (io), 39 I/O27 B3 (io), 40 I/O28 B4 (io), 41 I/O29 B5 (io), 42 I/O30 B6 (io), 43 I/O31 B7 (io), 44 VCC (power)

## M4A5-64/32-10JC
designator IC?
High-Performance EE CMOS In-System Programmable Logic
pins: 1 GND (power), 2 I/O0 A7 (io), 3 I/O1 A6 (io), 4 I/O2 A5 (io), 5 I/O3 A4 (io), 6 I/O4 A3 (io), 7 I/O5 A2 (io), 8 I/O6 A1 (io), 9 I/O7 A0 (io), 10 TDI (in), 11 CLK0/IN0 (in), 12 GND (power), 13 TCK (in), 14 I/O8 B0 (io), 15 I/O9 B1 (io), 16 I/O10 B2 (io), 17 I/O11 B3 (io), 18 I/O12 B4 (io), 19 I/O13 B5 (io), 20 I/O14 B6 (io), 21 I/O15 B7 (io), 22 VCC (power), 23 GND (power), 24 I/O16 C7 (io), 25 I/O17 C6 (io), 26 I/O18 C5 (io), 27 I/O19 C4 (io), 28 I/O20 C3 (io), 29 I/O21 C2 (io), 30 I/O22 C1 (io), 31 I/O23 C0 (io), 32 TMS (in), 33 CLK1/IN1 (in), 34 GND (power), 35 TDO (out), 36 I/O24 D0 (io), 37 I/O25 D1 (io), 38 I/O26 D2 (io), 39 I/O27 D3 (io), 40 I/O28 D4 (io), 41 I/O29 D5 (io), 42 I/O30 D6 (io), 43 I/O31 D7 (io), 44 VCC (power)

## M24C02‐RDW
designator IC?
2-Kbit (256 x 8bit) Serial I2C Bus EEPROM
pins: 1 E0 (in), 2 E1 (in), 3 E2 (in), 4 VSS (power), 5 SDA (io), 6 SCL (in), 7 ~{WC} (in), 8 VCC (power)

## M25P05-A
designator IC?
512-Kbit, Serial Flash Memory, 50 MHz SPI Bus Interface
pins: 1 ~{S} (in), 2 Q (out), 3 ~{W} (in), 4 VSS (power), 5 D (in), 6 C (in), 7 ~{HOLD} (in), 8 VCC (power)

## M25P32-VMF
designator IC?
32 Mbit, low-voltage, Serial Flash memory with 75-MHz SPI bus interface
pins: 1 ~{HOLD} (in), 2 VCC (power), 7 ~{S} (in), 8 Q (out), 9 ~{W}/Vpp (in), 10 VSS (power), 15 D (in), 16 C (in)

## M25P80-VMN6P
designator IC?
8 Mbit, 2.7V to 3.6V Serial Flash Embedded Memory
pins: 1 ~{S} (in), 2 DQ1 (out), 3 ~{W} (in), 4 VSS (power), 5 DQ0 (in), 6 C (in), 7 ~{HOLD} (in), 8 VCC (power)

## M25P128-VME
designator IC?
128 Mbit (Multilevel), low-voltage, Serial Flash memory with 50-MHz SPI bus interface
pins: 1 ~{S} (in), 2 Q (out), 3 ~{W}/Vpp (in), 4 VSS (power), 5 D (in), 6 C (in), 7 ~{HOLD} (in), 8 VCC (power), 9 EP (power)

## M25P128-VMF
designator IC?
128 Mbit (Multilevel), low-voltage, Serial Flash memory with 50-MHz SPI bus interface
pins: 1 ~{HOLD} (in), 2 VCC (power), 7 ~{S} (in), 8 Q (out), 9 ~{W}/Vpp (in), 10 VSS (power), 15 D (in), 16 C (in)

## M25PX80-VMN6P
designator IC?
8Mb, 2.7V to 3.6V, Dual I/O, 4KB Subsector Erase, 3V Serial Flash Memory
pins: 1 ~{S} (in), 2 DQ1 (out), 3 ~{W}/VPP (in), 4 VSS (power), 5 DQ0 (in), 6 C (in), 7 ~{HOLD} (in), 8 VCC (power)

## M27C4002-12F1
designator IC?
4 Mbit (256Kb x16) UV EPROM
pins: 1 VPP (in), 2 ~{E} (in), 3 Q15 (io), 4 Q14 (io), 5 Q13 (io), 6 Q12 (io), 7 Q11 (io), 8 Q10 (io), 9 Q9 (io), 10 Q8 (io), 11 VSS (power), 12 Q7 (io), 13 Q6 (io), 14 Q5 (io), 15 Q4 (io), 16 Q3 (io), 17 Q2 (io), 18 Q1 (io), 19 Q0 (io), 20 ~{G} (in), 21 A0 (in), 22 A1 (in), 23 A2 (in), 24 A3 (in), 25 A4 (in), 26 A5 (in), 27 A6 (in), 28 A7 (in), 29 A8 (in), 30 VSS (power), 31 A9 (in), 32 A10 (in), 33 A11 (in), 34 A12 (in), 35 A13 (in), 36 A14 (in), 37 A15 (in), 38 A16 (in), 39 A17 (in), 40 VCC (power)

## M93C46-MN
designator IC?
1Kb (x8/x16) Serial Microwire Bus EEPROM
pins: 1 S (in), 2 C (in), 3 D (in), 4 Q (out), 5 VSS (power), 6 ORG (in), 7 DU, 8 VCC (power)

## M93C46-WMN6TP
designator IC?
2.5 to 5.5 V, 1Kb (128x8) Serial Microwire Bus EEPROM
pins: 1 S (in), 2 C (in), 3 D (in), 4 Q (out), 5 VSS (power), 6 ORG (in), 7 DU, 8 VCC (power)

## M93C66-WMN6TP
designator IC?
2.5 to 5.5 V, 4Kbit (512 x 8 bit or 256 x 16 bit) MICROWIRE® Serial Access EEPROM
pins: 1 S (in), 2 C (in), 3 D (in), 4 Q (out), 5 VSS (power), 6 ORG (in), 7 DU, 8 VCC (power)

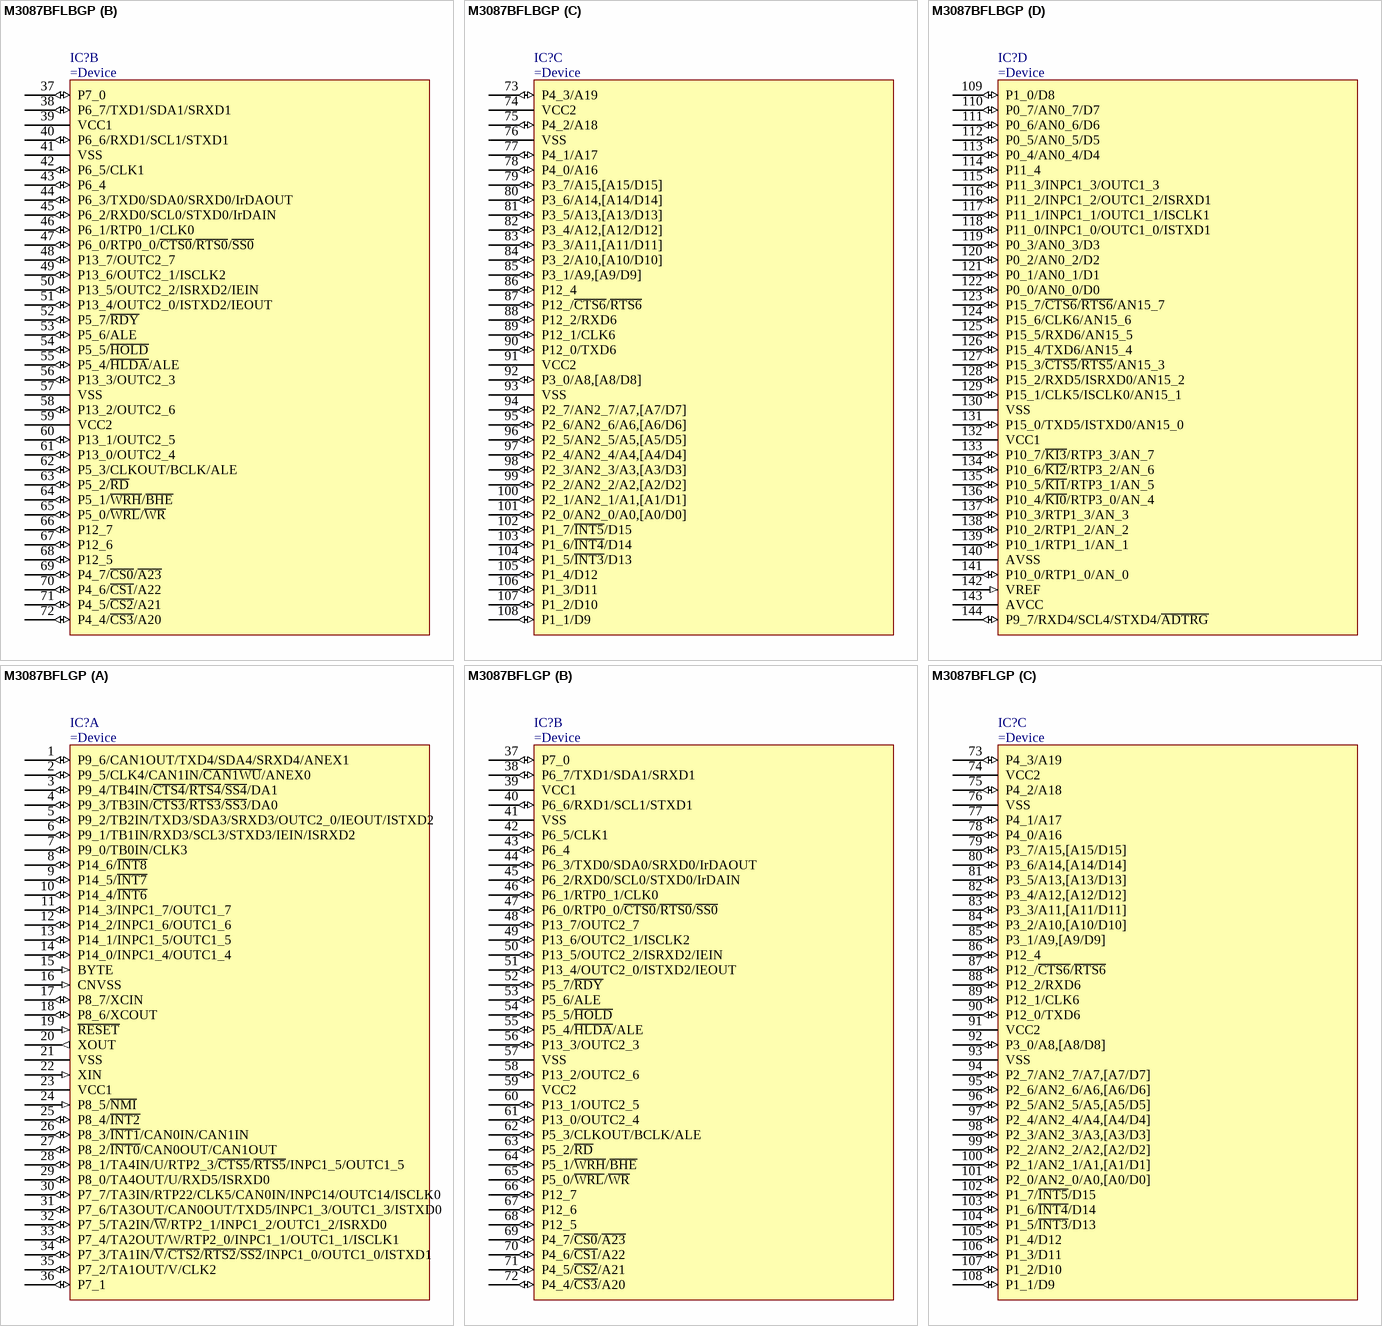
[diagram p96: symbols M3087BFLBGP to M3087BFLGP]

## M3087BFLBGP
designator IC?
Micro Controller Unit (MCU)
part A pins: 1 P9_6/CAN1OUT/TXD4/SDA4/SRXD4/ANEX1 (io), 2 P9_5/CLK4/CAN1IN/~{CAN1WU}/ANEX0 (io), 3 P9_4/TB4IN/~{CTS4}/~{RTS4}/~{SS4}/DA1 (io), 4 P9_3/TB3IN/~{CTS3}/~{RTS3}/~{SS3}/DA0 (io), 5 P9_2/TB2IN/TXD3/SDA3/SRXD3/OUTC2_0/IEOUT/ISTXD2 (io), 6 P9_1/TB1IN/RXD3/SCL3/STXD3/IEIN/ISRXD2 (io), 7 P9_0/TB0IN/CLK3 (io), 8 P14_6/~{INT8} (io), 9 P14_5/~{INT7} (io), 10 P14_4/~{INT6} (io), 11 P14_3/INPC1_7/OUTC1_7 (io), 12 P14_2/INPC1_6/OUTC1_6 (io), 13 P14_1/INPC1_5/OUTC1_5 (io), 14 P14_0/INPC1_4/OUTC1_4 (io), 15 BYTE (in), 16 CNVSS (in), 17 P8_7/XCIN (io), 18 P8_6/XCOUT (io), 19 ~{RESET} (in), 20 XOUT (out), 21 VSS (power), 22 XIN (in), 23 VCC1 (power), 24 P8_5/~{NMI} (in), 25 P8_4/~{INT2} (io), 26 P8_3/~{INT1}/CAN0IN/CAN1IN (io), 27 P8_2/~{INT0}/CAN0OUT/CAN1OUT (io), 28 P8_1/TA4IN/U/RTP2_3/~{CTS5}/~{RTS5}/INPC1_5/OUTC1_5 (io), 29 P8_0/TA4OUT/U/RXD5/ISRXD0 (io), 30 P7_7/TA3IN/RTP22/CLK5/CAN0IN/INPC14/OUTC14/ISCLK0 (io), 31 P7_6/TA3OUT/CAN0OUT/TXD5/INPC1_3/OUTC1_3/ISTXD0 (io), 32 P7_5/TA2IN/~{W}/RTP2_1/INPC1_2/OUTC1_2/ISRXD0 (io), 33 P7_4/TA2OUT/W/RTP2_0/INPC1_1/OUTC1_1/ISCLK1 (io), 34 P7_3/TA1IN/~{V}/~{CTS2}/~{RTS2}/~{SS2}/INPC1_0/OUTC1_0/ISTXD1 (io), 35 P7_2/TA1OUT/V/CLK2 (io), 36 P7_1 (io)
part B pins: 37 P7_0 (io), 38 P6_7/TXD1/SDA1/SRXD1 (io), 39 VCC1 (power), 40 P6_6/RXD1/SCL1/STXD1 (io), 41 VSS (power), 42 P6_5/CLK1 (io), 43 P6_4 (io), 44 P6_3/TXD0/SDA0/SRXD0/IrDAOUT (io), 45 P6_2/RXD0/SCL0/STXD0/IrDAIN (io), 46 P6_1/RTP0_1/CLK0 (io), 47 P6_0/RTP0_0/~{CTS0}/~{RTS0}/~{SS0} (io), 48 P13_7/OUTC2_7 (io), 49 P13_6/OUTC2_1/ISCLK2 (io), 50 P13_5/OUTC2_2/ISRXD2/IEIN (io), 51 P13_4/OUTC2_0/ISTXD2/IEOUT (io), 52 P5_7/~{RDY} (io), 53 P5_6/ALE (io), 54 P5_5/~{HOLD} (io), 55 P5_4/~{HLDA}/ALE (io), 56 P13_3/OUTC2_3 (io), 57 VSS (power), 58 P13_2/OUTC2_6 (io), 59 VCC2 (power), 60 P13_1/OUTC2_5 (io), 61 P13_0/OUTC2_4 (io), 62 P5_3/CLKOUT/BCLK/ALE (io), 63 P5_2/~{RD} (io), 64 P5_1/~{WRH}/~{BHE} (io), 65 P5_0/~{WRL}/~{WR} (io), 66 P12_7 (io), 67 P12_6 (io), 68 P12_5 (io), 69 P4_7/~{CS0}/~{A23} (io), 70 P4_6/~{CS1}/A22 (io), 71 P4_5/~{CS2}/A21 (io), 72 P4_4/~{CS3}/A20 (io)
part C pins: 73 P4_3/A19 (io), 74 VCC2 (power), 75 P4_2/A18 (io), 76 VSS (power), 77 P4_1/A17 (io), 78 P4_0/A16 (io), 79 P3_7/A15,[A15/D15] (io), 80 P3_6/A14,[A14/D14] (io), 81 P3_5/A13,[A13/D13] (io), 82 P3_4/A12,[A12/D12] (io), 83 P3_3/A11,[A11/D11] (io), 84 P3_2/A10,[A10/D10] (io), 85 P3_1/A9,[A9/D9] (io), 86 P12_4 (io), 87 P12_/~{CTS6}/~{RTS6} (io), 88 P12_2/RXD6 (io), 89 P12_1/CLK6 (io), 90 P12_0/TXD6 (io), 91 VCC2 (power), 92 P3_0/A8,[A8/D8] (io), 93 VSS (power), 94 P2_7/AN2_7/A7,[A7/D7] (io), 95 P2_6/AN2_6/A6,[A6/D6] (io), 96 P2_5/AN2_5/A5,[A5/D5] (io), 97 P2_4/AN2_4/A4,[A4/D4] (io), 98 P2_3/AN2_3/A3,[A3/D3] (io), 99 P2_2/AN2_2/A2,[A2/D2] (io), 100 P2_1/AN2_1/A1,[A1/D1] (io), 101 P2_0/AN2_0/A0,[A0/D0] (io), 102 P1_7/~{INT5}/D15 (io), 103 P1_6/~{INT4}/D14 (io), 104 P1_5/~{INT3}/D13 (io), 105 P1_4/D12 (io), 106 P1_3/D11 (io), 107 P1_2/D10 (io), 108 P1_1/D9 (io)
part D pins: 109 P1_0/D8 (io), 110 P0_7/AN0_7/D7 (io), 111 P0_6/AN0_6/D6 (io), 112 P0_5/AN0_5/D5 (io), 113 P0_4/AN0_4/D4 (io), 114 P11_4 (io), 115 P11_3/INPC1_3/OUTC1_3 (io), 116 P11_2/INPC1_2/OUTC1_2/ISRXD1 (io), 117 P11_1/INPC1_1/OUTC1_1/ISCLK1 (io), 118 P11_0/INPC1_0/OUTC1_0/ISTXD1 (io), 119 P0_3/AN0_3/D3 (io), 120 P0_2/AN0_2/D2 (io), 121 P0_1/AN0_1/D1 (io), 122 P0_0/AN0_0/D0 (io), 123 P15_7/~{CTS6}/~{RTS6}/AN15_7 (io), 124 P15_6/CLK6/AN15_6 (io), 125 P15_5/RXD6/AN15_5 (io), 126 P15_4/TXD6/AN15_4 (io), 127 P15_3/~{CTS5}/~{RTS5}/AN15_3 (io), 128 P15_2/RXD5/ISRXD0/AN15_2 (io), 129 P15_1/CLK5/ISCLK0/AN15_1 (io), 130 VSS (power), 131 P15_0/TXD5/ISTXD0/AN15_0 (io), 132 VCC1 (power), 133 P10_7/~{KI3}/RTP3_3/AN_7 (io), 134 P10_6/~{KI2}/RTP3_2/AN_6 (io), 135 P10_5/~{KI1}/RTP3_1/AN_5 (io), 136 P10_4/~{KI0}/RTP3_0/AN_4 (io), 137 P10_3/RTP1_3/AN_3 (io), 138 P10_2/RTP1_2/AN_2 (io), 139 P10_1/RTP1_1/AN_1 (io), 140 AVSS (power), 141 P10_0/RTP1_0/AN_0 (io), 142 VREF (in), 143 AVCC (power), 144 P9_7/RXD4/SCL4/STXD4/~{ADTRG} (io)

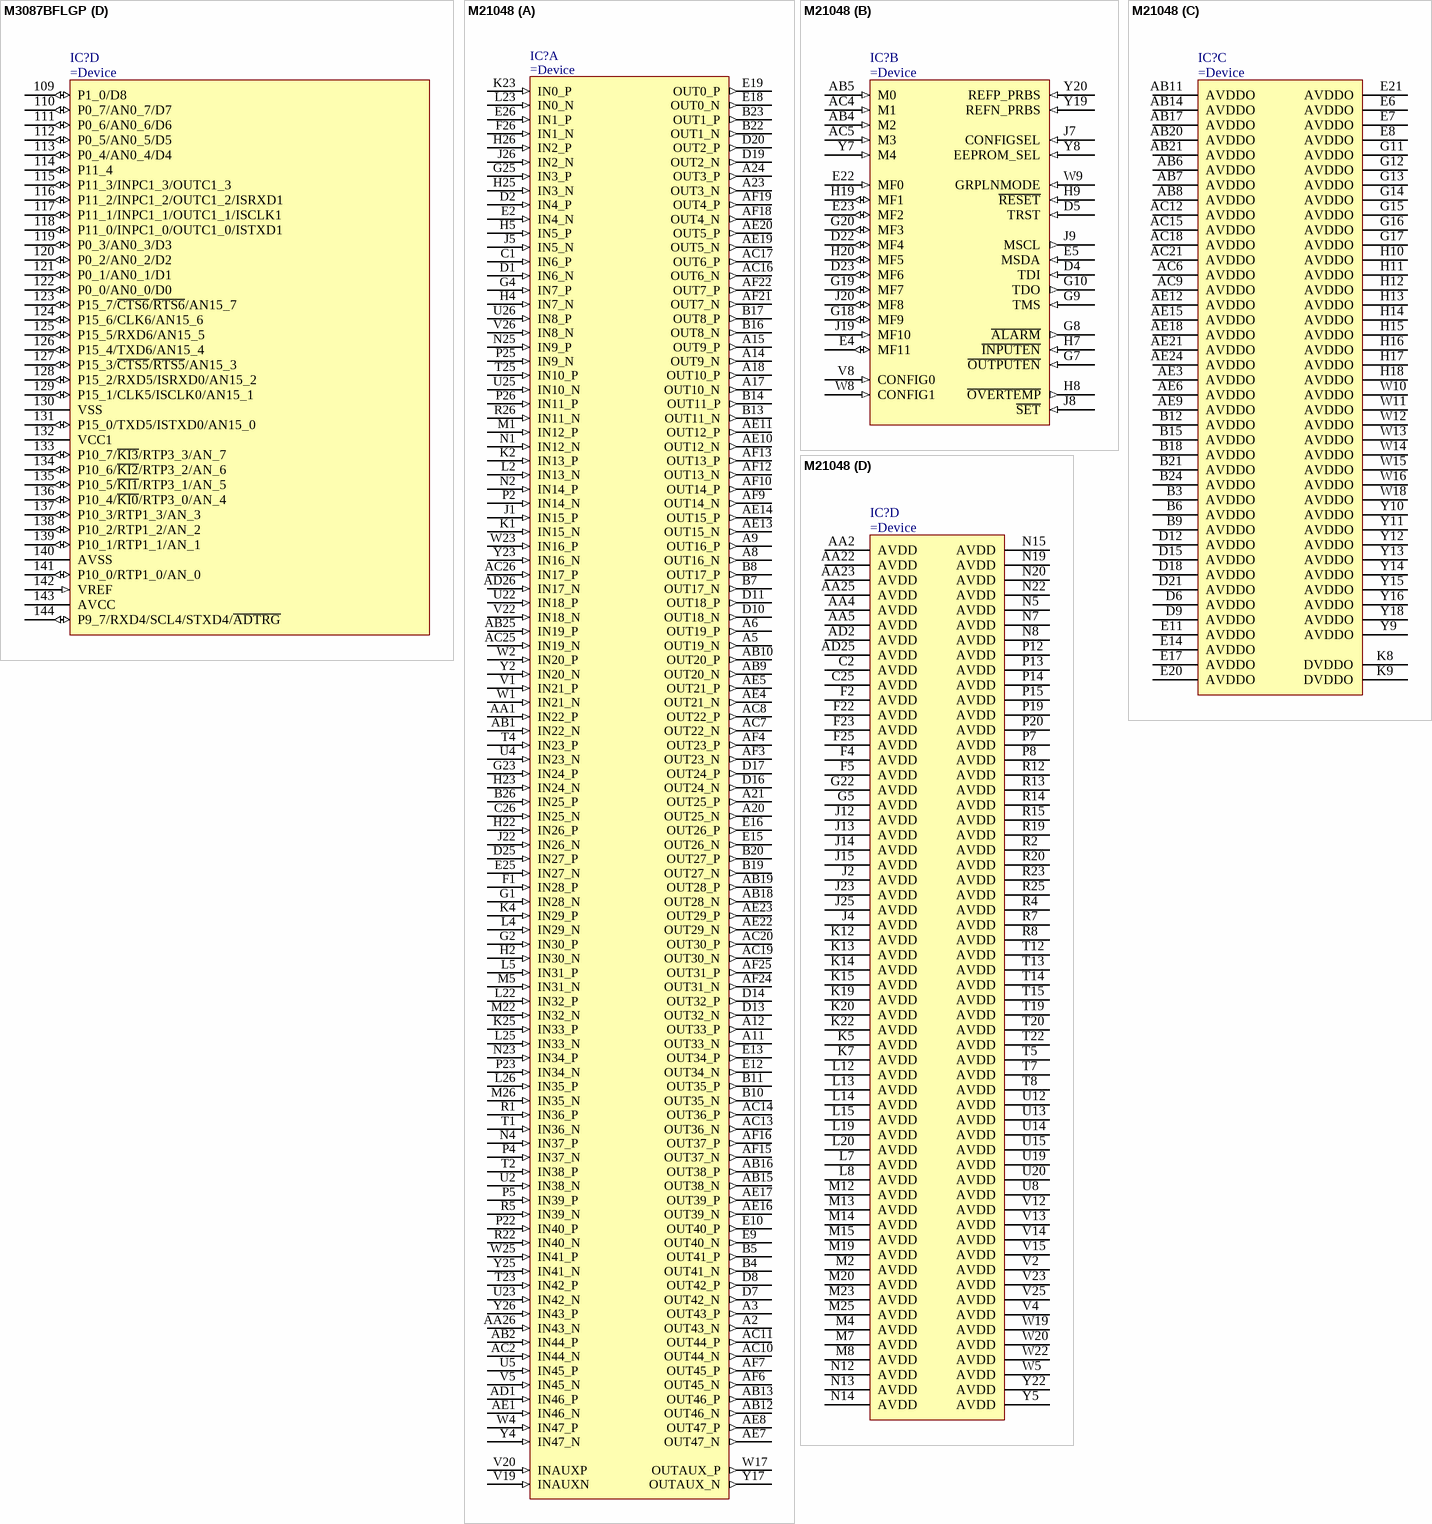
[diagram p97: symbols M3087BFLGP to M21048]